# Altium footprint library trafo.PCBLIB: 80 footprints (part 2 of 5)
Each footprint in its own frame and in the unit in brackets; x right, y up, seen from the top. Pads: shape width x height; smd on the part's side, far side on the other; paste and mask are expansions set on the pad; w line width, h text height; cw(c..) or ccw(c..) is an arc to the next point about the centre after c.
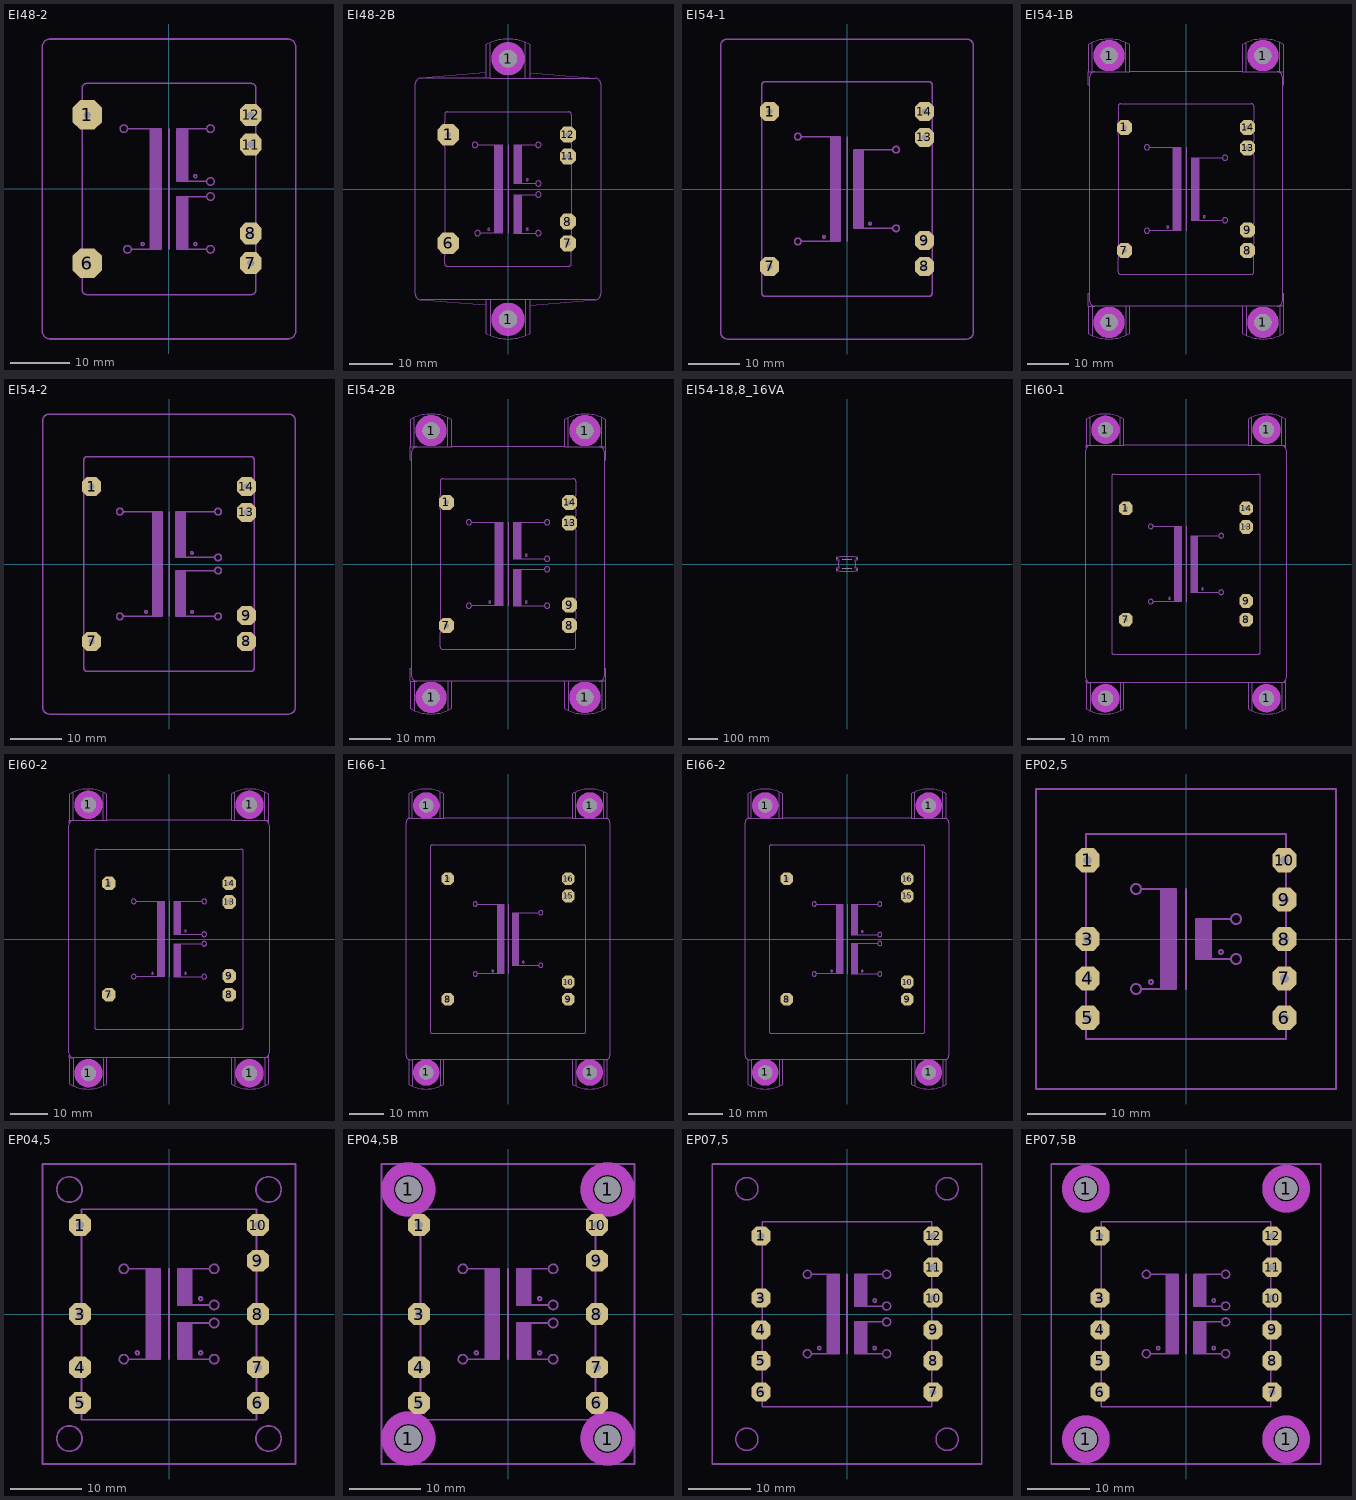
[diagram p1: the footprints below, top view; thin cyan lines are the x and y axes]

## EI48-2 [mil]
pads (6):
  oct 193.65x193.65 hole 47: 1(-542,492) 6(-542,-492)
  oct 145.24x145.24 hole 47: 7(542,-492) 8(542,-295) 11(542,295) 12(542,492)
Mechanical 2:
  circle w10: c-175,-365 r10
  circle w10: c-300,400 r25
  circle w10: c-275,-400 r25
  circle w10: c175,85 r10
  circle w10: c275,50 r25
  circle w10: c275,400 r25
  circle w10: c275,-50 r25
  circle w10: c275,-400 r25
  circle w10: c175,-365 r10
  rectangle: -125,-400 -50,400
  rectangle: 50,-400 125,-50
  rectangle: 50,50 125,400
  lines w10: -575,-605 -575,-675 ccw(c-550,-675) -550,-700 550,-700 ccw(c550,-675) 575,-675 575,-570 ; -575,-380 -575,380 ; -575,605 -575,675 cw(c-550,675) -550,700 550,700 cw(c550,675) 575,675 575,570 ; -275,400 -125,400 ; -250,-400 -125,-400 ; 0,-400 0,400 ; 250,-400 125,-400 ; 250,-50 125,-50 ; 250,50 125,50 ; 250,400 125,400 ; 575,-415 575,-370 ; 575,-220 575,220 ; 575,370 575,415 ; 840,945 ccw(c790,945) 790,995 -790,995 ccw(c-790,945) -840,945 -840,-945 ccw(c-790,-945) -790,-995 790,-995 ccw(c790,-945) 840,-945 840,955 ; -125,-400 -125,400 ; -125,-400 -50,-400 -50,400 -125,400 ; 125,-400 50,-400 50,-50 125,-50 ; 125,-400 125,-50 ; 125,50 50,50 50,400 125,400 ; 125,50 125,400
Mechanical 18:
  lines w10: -575,-605 -575,-380 ; -575,380 -575,605 ; 575,-570 575,-415 ; 575,-370 575,-220 ; 575,220 575,370 ; 575,415 575,570

## EI48-2B [mil]
pads (8):
  oct 193.65x193.65 hole 47: 1(-542,492) 6(-542,-492)
  round 162 hole 162: 1(0,-1181) 1(0,1181)
  oct 145.24x145.24 hole 47: 7(542,-492) 8(542,-295) 11(542,295) 12(542,492)
Mechanical 2:
  circle w10: c-175,-365 r10
  circle w10: c-300,400 r25
  circle w10: c-275,-400 r25
  circle w10: c175,85 r10
  circle w10: c275,50 r25
  circle w10: c275,400 r25
  circle w10: c275,-50 r25
  circle w10: c275,-400 r25
  circle w10: c175,-365 r10
  rectangle: -125,-400 -50,400
  rectangle: 50,-400 125,-50
  rectangle: 50,50 125,400
  lines w10: -575,-605 -575,-675 ccw(c-550,-675) -550,-700 550,-700 ccw(c550,-675) 575,-675 575,-570 ; -575,-380 -575,380 ; -575,605 -575,675 cw(c-550,675) -550,700 550,700 cw(c550,675) 575,675 575,570 ; -275,400 -125,400 ; -250,-400 -125,-400 ; -160,-1325 -160,-1005 ; -160,1325 -160,1005 ; 0,-400 0,400 ; 155,-1325 155,-1005 ; 155,1325 155,1005 ; 250,-400 125,-400 ; 250,-50 125,-50 ; 250,50 125,50 ; 250,400 125,400 ; 575,-415 575,-370 ; 575,-220 575,220 ; 575,370 575,415 ; 795,-1005 200,-1055 ; -790,-1005 cw(c-790,-955) -840,-955 -840,955 cw(c-790,955) -790,1005 ; -790,-1005 -200,-1005 ; -790,-1005 -200,-1050 ; -790,1005 -200,1005 ; -790,1005 -200,1055 ; -200,-1050 -200,-1005 ; -200,-1050 -200,-1306 ccw(c0,-960) 200,-1306 200,-1055 ; -200,-1005 -160,-1005 ; -200,1005 -160,1005 ; -200,1005 -200,1055 ; -200,1055 -200,1306 cw(c0,960) 200,1306 200,1055 ; -160,-1005 155,-1005 ; -160,1005 155,1005 ; -125,-400 -125,400 ; -125,-400 -50,-400 -50,400 -125,400 ; 125,-400 50,-400 50,-50 125,-50 ; 125,-400 125,-50 ; 125,50 50,50 50,400 125,400 ; 125,50 125,400 ; 155,-1005 200,-1005 ; 155,1005 200,1005 ; 200,-1055 200,-1005 ; 200,-1005 790,-1005 ccw(c790,-955) 840,-955 840,955 ccw(c790,955) 790,1005 ; 200,1005 200,1055 ; 200,1005 790,1005 ; 200,1055 790,1005
Mechanical 11 keep-out:
  circle w70: c0,-1181 r115
  circle w70: c0,1181 r115
Mechanical 12:
  circle w70: c0,-1181 r115
  circle w70: c0,1181 r115
Mechanical 18:
  lines w10: -575,-605 -575,-380 ; -575,380 -575,605 ; 575,-570 575,-415 ; 575,-370 575,-220 ; 575,220 575,370 ; 575,415 575,570

## EI54-1 [mil]
pads (6):
  oct 145.24x145.24 hole 47: 1(-591,591) 7(-591,-591) 8(591,-591) 9(591,-394) 13(591,394) 14(591,591)
Mechanical 2:
  circle w10: c-175,-365 r10
  circle w10: c175,-265 r10
  circle w10: c-375,400 r25
  circle w10: c-375,-400 r25
  circle w10: c375,-300 r25
  circle w10: c375,300 r25
  rectangle: -125,-400 -50,400
  rectangle: 50,-300 125,300
  lines w10: -650,-660 -650,-795 ccw(c-625,-795) -625,-820 625,-820 ccw(c625,-795) 650,-795 650,-660 ; -650,-525 -650,525 ; -650,655 -650,795 cw(c-625,795) -625,820 625,820 cw(c625,795) 650,795 650,660 ; -350,-400 -125,-400 ; -350,400 -125,400 ; 0,-400 0,400 ; 350,-300 125,-300 ; 350,300 125,300 ; 650,-525 650,-460 ; 650,-330 650,330 ; 650,465 650,525 ; -125,-400 -125,400 ; -125,-400 -50,-400 -50,400 -125,400 ; 125,-300 50,-300 50,300 125,300 ; 125,-300 125,300 ; -965,-1095 ccw(c-915,-1095) -915,-1145 915,-1145 ccw(c915,-1095) 965,-1095 965,1095 ccw(c915,1095) 915,1145 -915,1145 ccw(c-915,1095) -965,1095 -965,-1095
Mechanical 18:
  lines w10: -650,-660 -650,-525 ; -650,525 -650,655 ; 650,-660 650,-525 ; 650,-465 650,-330 ; 650,330 650,465 ; 650,525 650,660

## EI54-1B [mil]
pads (10):
  round 162 hole 162: 1(-738,-1280) 1(-738,1280) 1(738,-1280) 1(738,1280)
  oct 145.24x145.24 hole 47: 1(-591,591) 7(-591,-591) 8(591,-591) 9(591,-394) 13(591,394) 14(591,591)
Mechanical 2:
  circle w10: c-175,-365 r10
  circle w10: c175,-265 r10
  circle w10: c-375,400 r25
  circle w10: c-375,-400 r25
  circle w10: c375,-300 r25
  circle w10: c375,300 r25
  rectangle: -125,-400 -50,400
  rectangle: 50,-300 125,300
  lines w10: -900,-1405 -900,-1125 ; -900,-1120 -900,-1125 ; -900,1120 -900,1125 ; -900,1405 -900,1125 ; -875,-1125 cw(c-875,-1075) -925,-1075 -925,-1000 ; -875,1125 ccw(c-875,1075) -925,1075 -925,1000 ; -650,-660 -650,-795 ccw(c-625,-795) -625,-820 625,-820 ccw(c625,-795) 650,-795 650,-660 ; -650,-525 -650,525 ; -650,655 -650,795 cw(c-625,795) -625,820 625,820 cw(c625,795) 650,795 650,660 ; -580,-1405 -580,-1125 ; -580,1405 -580,1125 ; -350,-400 -125,-400 ; -350,400 -125,400 ; 0,-400 0,400 ; 350,-300 125,-300 ; 350,300 125,300 ; 580,-1405 580,-1125 ; 580,1405 580,1125 ; 650,-525 650,-460 ; 650,-330 650,330 ; 650,465 650,525 ; 875,-1125 ccw(c875,-1075) 925,-1075 925,-1000 ; 875,1125 cw(c875,1075) 925,1075 925,1000 ; 900,-1405 900,-1125 ; 900,-1120 900,-1125 ; 900,1120 900,1125 ; 900,1405 900,1125 ; -940,-1125 -940,-1386 ccw(c-740,-1040) -540,-1386 -540,-1125 ; -940,-1125 -900,-1125 ; -940,-1125 -940,-1000 -925,-1000 ; -940,1125 -900,1125 ; -940,1125 -940,1000 -925,1000 ; -940,1125 -940,1386 cw(c-740,1040) -540,1386 -540,1125 ; -925,-1000 -925,1000 ; -900,-1125 -580,-1125 ; -900,1125 -580,1125 ; -580,-1125 -540,-1125 ; -580,1125 -540,1125 ; -540,-1125 540,-1125 ; -540,1125 540,1125 ; -125,-400 -125,400 ; -125,-400 -50,-400 -50,400 -125,400 ; 125,-300 50,-300 50,300 125,300 ; 125,-300 125,300 ; 540,-1125 540,-1386 ccw(c740,-1040) 940,-1386 940,-1125 ; 540,-1125 580,-1125 ; 540,1125 580,1125 ; 540,1125 540,1386 cw(c740,1040) 940,1386 940,1125 ; 580,-1125 900,-1125 ; 580,1125 900,1125 ; 900,-1125 940,-1125 ; 900,1125 940,1125 ; 925,-1000 940,-1000 940,-1125 ; 925,-1000 925,1000 ; 925,1000 940,1000 940,1125
Mechanical 11 keep-out:
  circle w70: c-738,-1280 r115
  circle w70: c-738,1280 r115
  circle w70: c738,-1280 r115
  circle w70: c738,1280 r115
Mechanical 12:
  circle w70: c-738,-1280 r115
  circle w70: c-738,1280 r115
  circle w70: c738,-1280 r115
  circle w70: c738,1280 r115
Mechanical 18:
  lines w10: -650,-660 -650,-525 ; -650,525 -650,655 ; 650,-660 650,-525 ; 650,-465 650,-330 ; 650,330 650,465 ; 650,525 650,660

## EI54-2 [mil]
pads (6):
  oct 145.24x145.24 hole 47: 1(-591,591) 7(-591,-591) 8(591,-591) 9(591,-394) 13(591,394) 14(591,591)
Mechanical 2:
  circle w10: c-175,-365 r10
  circle w10: c-375,400 r25
  circle w10: c-375,-400 r25
  circle w10: c175,85 r10
  circle w10: c375,50 r25
  circle w10: c375,400 r25
  circle w10: c375,-50 r25
  circle w10: c375,-400 r25
  circle w10: c175,-365 r10
  rectangle: -125,-400 -50,400
  rectangle: 50,-400 125,-50
  rectangle: 50,50 125,400
  lines w10: -650,-660 -650,-795 ccw(c-625,-795) -625,-820 625,-820 ccw(c625,-795) 650,-795 650,-660 ; -650,-525 -650,525 ; -650,655 -650,795 cw(c-625,795) -625,820 625,820 cw(c625,795) 650,795 650,660 ; -350,-400 -125,-400 ; -350,400 -125,400 ; 0,-400 0,400 ; 350,-400 125,-400 ; 350,-50 125,-50 ; 350,50 125,50 ; 350,400 125,400 ; 650,-525 650,-460 ; 650,-330 650,330 ; 650,465 650,525 ; -125,-400 -125,400 ; -125,-400 -50,-400 -50,400 -125,400 ; 125,-400 50,-400 50,-50 125,-50 ; 125,-400 125,-50 ; 125,50 50,50 50,400 125,400 ; 125,50 125,400 ; -965,-1095 ccw(c-915,-1095) -915,-1145 915,-1145 ccw(c915,-1095) 965,-1095 965,1095 ccw(c915,1095) 915,1145 -915,1145 ccw(c-915,1095) -965,1095 -965,-1095
Mechanical 18:
  lines w10: -650,-660 -650,-525 ; -650,525 -650,655 ; 650,-660 650,-525 ; 650,-465 650,-330 ; 650,330 650,465 ; 650,525 650,660

## EI54-2B [mil]
pads (10):
  round 162 hole 162: 1(-738,-1280) 1(-738,1280) 1(738,-1280) 1(738,1280)
  oct 145.24x145.24 hole 47: 1(-591,591) 7(-591,-591) 8(591,-591) 9(591,-394) 13(591,394) 14(591,591)
Mechanical 2:
  circle w10: c-175,-365 r10
  circle w10: c-375,400 r25
  circle w10: c-375,-400 r25
  circle w10: c175,85 r10
  circle w10: c375,50 r25
  circle w10: c375,400 r25
  circle w10: c375,-50 r25
  circle w10: c375,-400 r25
  circle w10: c175,-365 r10
  rectangle: -125,-400 -50,400
  rectangle: 50,-400 125,-50
  rectangle: 50,50 125,400
  lines w10: -900,-1405 -900,-1125 ; -900,-1120 -900,-1125 ; -900,1120 -900,1125 ; -900,1405 -900,1125 ; -875,-1125 cw(c-875,-1075) -925,-1075 -925,-1000 ; -875,1125 ccw(c-875,1075) -925,1075 -925,1000 ; -650,-660 -650,-795 ccw(c-625,-795) -625,-820 625,-820 ccw(c625,-795) 650,-795 650,-660 ; -650,-525 -650,525 ; -650,655 -650,795 cw(c-625,795) -625,820 625,820 cw(c625,795) 650,795 650,660 ; -580,-1405 -580,-1125 ; -580,1405 -580,1125 ; -350,-400 -125,-400 ; -350,400 -125,400 ; 0,-400 0,400 ; 350,-400 125,-400 ; 350,-50 125,-50 ; 350,50 125,50 ; 350,400 125,400 ; 580,-1405 580,-1125 ; 580,1405 580,1125 ; 650,-525 650,-460 ; 650,-330 650,330 ; 650,465 650,525 ; 875,-1125 ccw(c875,-1075) 925,-1075 925,-1000 ; 875,1125 cw(c875,1075) 925,1075 925,1000 ; 900,-1405 900,-1125 ; 900,-1120 900,-1125 ; 900,1120 900,1125 ; 900,1405 900,1125 ; -940,-1125 -940,-1386 ccw(c-740,-1040) -540,-1386 -540,-1125 ; -940,-1125 -900,-1125 ; -940,-1125 -940,-1000 -925,-1000 ; -940,1125 -900,1125 ; -940,1125 -940,1000 -925,1000 ; -940,1125 -940,1386 cw(c-740,1040) -540,1386 -540,1125 ; -925,-1000 -925,1000 ; -900,-1125 -580,-1125 ; -900,1125 -580,1125 ; -580,-1125 -540,-1125 ; -580,1125 -540,1125 ; -540,-1125 540,-1125 ; -540,1125 540,1125 ; -125,-400 -125,400 ; -125,-400 -50,-400 -50,400 -125,400 ; 125,-400 50,-400 50,-50 125,-50 ; 125,-400 125,-50 ; 125,50 50,50 50,400 125,400 ; 125,50 125,400 ; 540,-1125 540,-1386 ccw(c740,-1040) 940,-1386 940,-1125 ; 540,-1125 580,-1125 ; 540,1125 580,1125 ; 540,1125 540,1386 cw(c740,1040) 940,1386 940,1125 ; 580,-1125 900,-1125 ; 580,1125 900,1125 ; 900,-1125 940,-1125 ; 900,1125 940,1125 ; 925,-1000 940,-1000 940,-1125 ; 925,-1000 925,1000 ; 925,1000 940,1000 940,1125
Mechanical 11 keep-out:
  circle w70: c-738,-1280 r115
  circle w70: c-738,1280 r115
  circle w70: c738,-1280 r115
  circle w70: c738,1280 r115
Mechanical 12:
  circle w70: c-738,-1280 r115
  circle w70: c-738,1280 r115
  circle w70: c738,-1280 r115
  circle w70: c738,1280 r115
Mechanical 18:
  lines w10: -650,-660 -650,-525 ; -650,525 -650,655 ; 650,-660 650,-525 ; 650,-465 650,-330 ; 650,330 650,465 ; 650,525 650,660

## EI54-18,8_16VA [mil]
pads (18):
  round 165 hole 165: 1(-1280,-740) 1(-1280,740) 1(1280,-740) 1(1280,740)
  round 100 hole 43.31: 1(-600,-590) 2(-400,-590) 3(-200,-590) 4(0,-590) 5(200,-590) 6(400,-590) 7(600,-590) 8(600,590) 9(400,590) 10(200,590) 11(0,590) 12(-200,590) 13(-400,590) 14(-600,590)
Mechanical 2:
  lines w8: -1464,-932 cw(c-455.25,-740) -1464,-548 -1126,-548 cw(c3863.8,0) -1126,548 -1464,548 cw(c-455.25,740) -1464,932 -1164,932 cw(c0,-9615) 1164,932 1464,932 cw(c455.25,740) 1464,548 1126,548 cw(c-3863.8,0) 1126,-548 1464,-548 cw(c455.25,-740) 1464,-932 1164,-932 cw(c0,9615) -1164,-932 -1464,-932

## EI60-1 [mil]
pads (10):
  round 162 hole 162: 1(-856,-1427) 1(-856,1427) 1(856,-1427) 1(856,1427)
  oct 145.24x145.24 hole 47: 1(-640,591) 7(-640,-591) 8(640,-591) 9(640,-394) 13(640,394) 14(640,591)
Mechanical 2:
  circle w10: c-175,-365 r10
  circle w10: c175,-265 r10
  circle w10: c-375,400 r25
  circle w10: c-375,-400 r25
  circle w10: c375,-300 r25
  circle w10: c375,300 r25
  rectangle: -125,-400 -50,400
  rectangle: 50,-300 125,300
  lines w10: -1060,-1235 -1060,-1260 ; -1060,1230 -1060,1260 ; -1020,-1560 -1020,-1260 ; -1020,1560 -1020,1260 ; -1015,-1260 cw(c-1015,-1210) -1065,-1210 -1065,1210 cw(c-1015,1210) -1015,1260 ; -700,-1560 -700,-1260 ; -700,1560 -700,1260 ; -350,-400 -125,-400 ; -350,400 -125,400 ; 0,-400 0,400 ; 350,-300 125,-300 ; 350,300 125,300 ; 700,-1560 700,-1260 ; 700,1560 700,1260 ; 1015,-1260 ccw(c1015,-1210) 1065,-1210 1065,1210 ccw(c1015,1210) 1015,1260 ; 1020,-1560 1020,-1260 ; 1020,1560 1020,1260 ; 1060,-1230 1060,-1260 ; 1060,1230 1060,1260 ; -1060,-1260 -1060,-1541 ccw(c-860,-1195) -660,-1541 -660,-1260 ; -1060,-1260 -1020,-1260 ; -1060,1260 -1020,1260 ; -1060,1260 -1060,1541 cw(c-860,1195) -660,1541 -660,1260 ; -1020,-1260 -700,-1260 ; -1020,1260 -700,1260 ; -700,-1260 -660,-1260 ; -700,1260 -660,1260 ; -660,-1260 660,-1260 ; -660,1260 660,1260 ; -125,-400 -125,400 ; -125,-400 -50,-400 -50,400 -125,400 ; 125,-300 50,-300 50,300 125,300 ; 125,-300 125,300 ; 660,-1260 660,-1541 ccw(c860,-1195) 1060,-1541 1060,-1260 ; 660,-1260 700,-1260 ; 660,1260 700,1260 ; 660,1260 660,1541 cw(c860,1195) 1060,1541 1060,1260 ; 700,-1260 1020,-1260 ; 700,1260 1020,1260 ; 1020,-1260 1060,-1260 ; 1020,1260 1060,1260 ; -790,-935 ccw(c-765,-935) -765,-960 765,-960 ccw(c765,-935) 790,-935 790,930 ccw(c765,930) 765,955 -765,955 ccw(c-765,930) -790,930 -790,-935
Mechanical 11 keep-out:
  circle w70: c-856,-1427 r115
  circle w70: c-856,1427 r115
  circle w70: c856,-1427 r115
  circle w70: c856,1427 r115
Mechanical 12:
  circle w70: c-856,-1427 r115
  circle w70: c-856,1427 r115
  circle w70: c856,-1427 r115
  circle w70: c856,1427 r115

## EI60-2 [mil]
pads (10):
  round 162 hole 162: 1(-856,-1427) 1(-856,1427) 1(856,-1427) 1(856,1427)
  oct 145.24x145.24 hole 47: 1(-640,591) 7(-640,-591) 8(640,-591) 9(640,-394) 13(640,394) 14(640,591)
Mechanical 2:
  circle w10: c-175,-365 r10
  circle w10: c-375,400 r25
  circle w10: c-375,-400 r25
  circle w10: c175,85 r10
  circle w10: c375,50 r25
  circle w10: c375,400 r25
  circle w10: c375,-50 r25
  circle w10: c375,-400 r25
  circle w10: c175,-365 r10
  rectangle: -125,-400 -50,400
  rectangle: 50,-400 125,-50
  rectangle: 50,50 125,400
  lines w10: -1060,-1235 -1060,-1260 ; -1060,1230 -1060,1260 ; -1020,-1560 -1020,-1260 ; -1020,1560 -1020,1260 ; -1015,-1260 cw(c-1015,-1210) -1065,-1210 -1065,1210 cw(c-1015,1210) -1015,1260 ; -700,-1560 -700,-1260 ; -700,1560 -700,1260 ; -350,-400 -125,-400 ; -350,400 -125,400 ; 0,-400 0,400 ; 350,-400 125,-400 ; 350,-50 125,-50 ; 350,50 125,50 ; 350,400 125,400 ; 700,-1560 700,-1260 ; 700,1560 700,1260 ; 1015,-1260 ccw(c1015,-1210) 1065,-1210 1065,1210 ccw(c1015,1210) 1015,1260 ; 1020,-1560 1020,-1260 ; 1020,1560 1020,1260 ; 1060,-1230 1060,-1260 ; 1060,1230 1060,1260 ; -1060,-1260 -1060,-1541 ccw(c-860,-1195) -660,-1541 -660,-1260 ; -1060,-1260 -1020,-1260 ; -1060,1260 -1020,1260 ; -1060,1260 -1060,1541 cw(c-860,1195) -660,1541 -660,1260 ; -1020,-1260 -700,-1260 ; -1020,1260 -700,1260 ; -700,-1260 -660,-1260 ; -700,1260 -660,1260 ; -660,-1260 660,-1260 ; -660,1260 660,1260 ; -125,-400 -125,400 ; -125,-400 -50,-400 -50,400 -125,400 ; 125,-400 50,-400 50,-50 125,-50 ; 125,-400 125,-50 ; 125,50 50,50 50,400 125,400 ; 125,50 125,400 ; 660,-1260 660,-1541 ccw(c860,-1195) 1060,-1541 1060,-1260 ; 660,-1260 700,-1260 ; 660,1260 700,1260 ; 660,1260 660,1541 cw(c860,1195) 1060,1541 1060,1260 ; 700,-1260 1020,-1260 ; 700,1260 1020,1260 ; 1020,-1260 1060,-1260 ; 1020,1260 1060,1260 ; -790,-935 ccw(c-765,-935) -765,-960 765,-960 ccw(c765,-935) 790,-935 790,930 ccw(c765,930) 765,955 -765,955 ccw(c-765,930) -790,930 -790,-935
Mechanical 11 keep-out:
  circle w70: c-856,-1427 r115
  circle w70: c-856,1427 r115
  circle w70: c856,-1427 r115
  circle w70: c856,1427 r115
Mechanical 12:
  circle w70: c-856,-1427 r115
  circle w70: c-856,1427 r115
  circle w70: c856,-1427 r115
  circle w70: c856,1427 r115

## EI66-1 [mil]
pads (10):
  round 162 hole 162: 1(-935,-1526) 1(-935,1526) 1(935,-1526) 1(935,1526)
  oct 145.24x145.24 hole 47: 1(-689,689) 8(-689,-689) 9(689,-689) 10(689,-492) 15(689,492) 16(689,689)
Mechanical 2:
  circle w10: c-175,-365 r10
  circle w10: c175,-265 r10
  circle w10: c-375,400 r25
  circle w10: c-375,-400 r25
  circle w10: c375,-300 r25
  circle w10: c375,300 r25
  rectangle: -125,-400 -50,400
  rectangle: 50,-300 125,300
  lines w10: -1135,-1375 -1135,-1380 ; -1135,1375 -1135,1380 ; -1115,-1380 cw(c-1115,-1330) -1165,-1330 -1165,1330 cw(c-1115,1330) -1115,1380 ; -1095,-1680 -1095,-1380 ; -1095,1680 -1095,1380 ; -775,-1680 -775,-1380 ; -775,1680 -775,1380 ; -350,-400 -125,-400 ; -350,400 -125,400 ; 0,-400 0,400 ; 350,-300 125,-300 ; 350,300 125,300 ; 775,-1680 775,-1380 ; 775,1680 775,1380 ; 1095,-1680 1095,-1380 ; 1095,1680 1095,1380 ; 1115,-1380 ccw(c1115,-1330) 1165,-1330 1165,1330 ccw(c1115,1330) 1115,1380 ; 1135,-1375 1135,-1380 ; 1135,1375 1135,1380 ; -1135,-1380 -1135,-1661 ccw(c-935,-1315) -735,-1661 -735,-1380 ; -1135,-1380 -1095,-1380 ; -1135,1380 -1095,1380 ; -1135,1380 -1135,1661 cw(c-935,1315) -735,1661 -735,1380 ; -1095,-1380 -775,-1380 ; -1095,1380 -775,1380 ; -775,-1380 -735,-1380 ; -775,1380 -735,1380 ; -735,-1380 735,-1380 ; -735,1380 735,1380 ; -125,-400 -125,400 ; -125,-400 -50,-400 -50,400 -125,400 ; 125,-300 50,-300 50,300 125,300 ; 125,-300 125,300 ; 735,-1380 735,-1661 ccw(c935,-1315) 1135,-1661 1135,-1380 ; 735,-1380 775,-1380 ; 735,1380 775,1380 ; 735,1380 735,1661 cw(c935,1315) 1135,1661 1135,1380 ; 775,-1380 1095,-1380 ; 775,1380 1095,1380 ; 1095,-1380 1135,-1380 ; 1095,1380 1135,1380 ; -890,-1055 ccw(c-865,-1055) -865,-1080 865,-1080 ccw(c865,-1055) 890,-1055 890,1050 ccw(c865,1050) 865,1075 -865,1075 ccw(c-865,1050) -890,1050 -890,-1055
Mechanical 11 keep-out:
  circle w70: c-935,-1526 r115
  circle w70: c-935,1526 r115
  circle w70: c935,-1526 r115
  circle w70: c935,1526 r115
Mechanical 12:
  circle w70: c-935,-1526 r115
  circle w70: c-935,1526 r115
  circle w70: c935,-1526 r115
  circle w70: c935,1526 r115

## EI66-2 [mil]
pads (10):
  round 162 hole 162: 1(-935,-1526) 1(-935,1526) 1(935,-1526) 1(935,1526)
  oct 145.24x145.24 hole 47: 1(-689,689) 8(-689,-689) 9(689,-689) 10(689,-492) 15(689,492) 16(689,689)
Mechanical 2:
  circle w10: c-175,-365 r10
  circle w10: c-375,400 r25
  circle w10: c-375,-400 r25
  circle w10: c175,85 r10
  circle w10: c375,50 r25
  circle w10: c375,400 r25
  circle w10: c375,-50 r25
  circle w10: c375,-400 r25
  circle w10: c175,-365 r10
  rectangle: -125,-400 -50,400
  rectangle: 50,-400 125,-50
  rectangle: 50,50 125,400
  lines w10: -1135,-1375 -1135,-1380 ; -1135,1375 -1135,1380 ; -1115,-1380 cw(c-1115,-1330) -1165,-1330 -1165,1330 cw(c-1115,1330) -1115,1380 ; -1095,-1680 -1095,-1380 ; -1095,1680 -1095,1380 ; -775,-1680 -775,-1380 ; -775,1680 -775,1380 ; -350,-400 -125,-400 ; -350,400 -125,400 ; 0,-400 0,400 ; 350,-400 125,-400 ; 350,-50 125,-50 ; 350,50 125,50 ; 350,400 125,400 ; 775,-1680 775,-1380 ; 775,1680 775,1380 ; 1095,-1680 1095,-1380 ; 1095,1680 1095,1380 ; 1115,-1380 ccw(c1115,-1330) 1165,-1330 1165,1330 ccw(c1115,1330) 1115,1380 ; 1135,-1375 1135,-1380 ; 1135,1375 1135,1380 ; -1135,-1380 -1135,-1661 ccw(c-935,-1315) -735,-1661 -735,-1380 ; -1135,-1380 -1095,-1380 ; -1135,1380 -1095,1380 ; -1135,1380 -1135,1661 cw(c-935,1315) -735,1661 -735,1380 ; -1095,-1380 -775,-1380 ; -1095,1380 -775,1380 ; -775,-1380 -735,-1380 ; -775,1380 -735,1380 ; -735,-1380 735,-1380 ; -735,1380 735,1380 ; -125,-400 -125,400 ; -125,-400 -50,-400 -50,400 -125,400 ; 125,-400 50,-400 50,-50 125,-50 ; 125,-400 125,-50 ; 125,50 50,50 50,400 125,400 ; 125,50 125,400 ; 735,-1380 735,-1661 ccw(c935,-1315) 1135,-1661 1135,-1380 ; 735,-1380 775,-1380 ; 735,1380 775,1380 ; 735,1380 735,1661 cw(c935,1315) 1135,1661 1135,1380 ; 775,-1380 1095,-1380 ; 775,1380 1095,1380 ; 1095,-1380 1135,-1380 ; 1095,1380 1135,1380 ; -890,-1055 ccw(c-865,-1055) -865,-1080 865,-1080 ccw(c865,-1055) 890,-1055 890,1050 ccw(c865,1050) 865,1075 -865,1075 ccw(c-865,1050) -890,1050 -890,-1055
Mechanical 11 keep-out:
  circle w70: c-935,-1526 r115
  circle w70: c-935,1526 r115
  circle w70: c935,-1526 r115
  circle w70: c935,1526 r115
Mechanical 12:
  circle w70: c-935,-1526 r115
  circle w70: c-935,1526 r115
  circle w70: c935,-1526 r115
  circle w70: c935,1526 r115

## EP02,5 [mil]
pads (9):
  oct 121.03x121.03 hole 44: 1(-492,394) 3(-492,0) 4(-492,-197) 5(-492,-394) 6(492,-394) 7(492,-197) 8(492,0) 9(492,197) 10(492,394)
Mechanical 2:
  circle w10: c-175,-215 r10
  circle w10: c175,-65 r10
  circle w10: c-250,-250 r25
  circle w10: c-250,250 r25
  circle w10: c250,100 r25
  circle w10: c250,-100 r25
  rectangle: -125,-250 -50,250
  rectangle: 50,-100 125,100
  lines w10: -500,-465 -500,-500 500,-500 500,-465 ; -500,-325 -500,-265 ; -500,-130 -500,-70 ; -500,70 -500,325 ; -500,465 -500,525 500,525 500,465 ; -225,-250 -125,-250 ; -225,250 -125,250 ; 0,-250 0,250 ; 225,-100 125,-100 ; 225,100 125,100 ; 500,-325 500,-270 ; 500,-125 500,-70 ; 500,70 500,125 ; 500,270 500,325 ; -125,-250 -125,250 ; -125,-250 -50,-250 -50,250 -125,250 ; 125,-100 50,-100 50,100 125,100 ; 125,-100 125,100 ; -750,-750 750,-750 750,750 -750,750 -750,-750
Mechanical 18:
  lines w10: -500,-465 -500,-325 ; -500,-265 -500,-130 ; -500,-70 -500,70 ; -500,325 -500,465 ; 500,-465 500,-325 ; 500,-270 500,-125 ; 500,-70 500,70 ; 500,125 500,270 ; 500,325 500,465

## EP04,5 [mil]
pads (9):
  oct 121.03x121.03 hole 44: 1(-492,492) 3(-492,0) 4(-492,-295) 5(-492,-492) 6(492,-492) 7(492,-295) 8(492,0) 9(492,295) 10(492,492)
Mechanical 2:
  circle w10: c551,-689 r70
  circle w10: c-551,-689 r70
  circle w10: c-551,689 r70
  circle w10: c551,689 r70
  circle w10: c-175,-215 r10
  circle w10: c175,85 r10
  circle w10: c175,-215 r10
  circle w10: c-250,-250 r25
  circle w10: c-250,250 r25
  circle w10: c250,250 r25
  circle w10: c250,-250 r25
  circle w10: c250,-50 r25
  circle w10: c250,50 r25
  rectangle: -125,-250 -50,250
  rectangle: 50,50 125,250
  rectangle: 50,-250 125,-50
  lines w10: -485,-565 -485,-585 485,-585 485,-565 ; -485,-420 -485,-365 ; -485,-225 -485,-70 ; -485,70 -485,420 ; -485,565 -485,580 485,580 485,565 ; -225,-250 -125,-250 ; -225,250 -125,250 ; 0,-250 0,250 ; 225,-250 125,-250 ; 225,-50 125,-50 ; 225,50 125,50 ; 225,250 125,250 ; 485,-420 485,-370 ; 485,-220 485,-75 ; 485,75 485,220 ; 485,370 485,415 ; -125,-250 -125,250 ; -125,-250 -50,-250 -50,250 -125,250 ; 125,-250 50,-250 50,-50 125,-50 ; 125,-250 125,-50 ; 125,50 50,50 50,250 125,250 ; 125,50 125,250 ; -700,-830 700,-830 700,830 -700,830 -700,-830
Mechanical 18:
  lines w10: -485,-565 -485,-420 ; -485,-365 -485,-225 ; -485,-70 -485,70 ; -485,420 -485,565 ; 485,-565 485,-420 ; 485,-370 485,-220 ; 485,-75 485,75 ; 485,220 485,370 ; 485,415 485,565

## EP04,5B [mil]
pads (13):
  round 142 hole 142: 1(-551,-689) 1(-551,689) 1(551,-689) 1(551,689)
  oct 121.03x121.03 hole 44: 1(-492,492) 3(-492,0) 4(-492,-295) 5(-492,-492) 6(492,-492) 7(492,-295) 8(492,0) 9(492,295) 10(492,492)
Mechanical 2:
  circle w10: c-175,-215 r10
  circle w10: c175,85 r10
  circle w10: c175,-215 r10
  circle w10: c-250,-250 r25
  circle w10: c-250,250 r25
  circle w10: c250,250 r25
  circle w10: c250,-250 r25
  circle w10: c250,-50 r25
  circle w10: c250,50 r25
  rectangle: -125,-250 -50,250
  rectangle: 50,50 125,250
  rectangle: 50,-250 125,-50
  lines w10: -485,-565 -485,-585 485,-585 485,-565 ; -485,-420 -485,-365 ; -485,-225 -485,-70 ; -485,70 -485,420 ; -485,565 -485,580 485,580 485,565 ; -225,-250 -125,-250 ; -225,250 -125,250 ; 0,-250 0,250 ; 225,-250 125,-250 ; 225,-50 125,-50 ; 225,50 125,50 ; 225,250 125,250 ; 485,-420 485,-370 ; 485,-220 485,-75 ; 485,75 485,220 ; 485,370 485,415 ; -125,-250 -125,250 ; -125,-250 -50,-250 -50,250 -125,250 ; 125,-250 50,-250 50,-50 125,-50 ; 125,-250 125,-50 ; 125,50 50,50 50,250 125,250 ; 125,50 125,250 ; -700,-830 700,-830 700,830 -700,830 -700,-830
Mechanical 11 keep-out:
  circle w70: c-551,-689 r115
  circle w70: c-551,689 r115
  circle w70: c551,689 r115
  circle w70: c551,-689 r115
Mechanical 12:
  circle w70: c-551,-689 r115
  circle w70: c-551,689 r115
  circle w70: c551,689 r115
  circle w70: c551,-689 r115
Mechanical 18:
  lines w10: -485,-565 -485,-420 ; -485,-365 -485,-225 ; -485,-70 -485,70 ; -485,420 -485,565 ; 485,-565 485,-420 ; 485,-370 485,-220 ; 485,-75 485,75 ; 485,220 485,370 ; 485,415 485,565

## EP07,5 [mil]
pads (11):
  oct 121.03x121.03 hole 44: 1(-542,492) 3(-542,100) 4(-542,-100) 5(-542,-295) 6(-542,-492) 7(542,-492) 8(542,-295) 9(542,-100) 10(542,100) 11(542,295) 12(542,492)
Mechanical 2:
  circle w10: c631,-789 r70
  circle w10: c-631,-789 r70
  circle w10: c-631,789 r70
  circle w10: c631,789 r70
  circle w10: c-175,-215 r10
  circle w10: c175,85 r10
  circle w10: c175,-215 r10
  circle w10: c-250,-250 r25
  circle w10: c-250,250 r25
  circle w10: c250,250 r25
  circle w10: c250,-250 r25
  circle w10: c250,-50 r25
  circle w10: c250,50 r25
  rectangle: -125,-250 -50,250
  rectangle: 50,50 125,250
  rectangle: 50,-250 125,-50
  lines w10: -535,-565 -535,-585 535,-585 535,-565 ; -535,-420 -535,-365 ; -535,-225 -535,-170 ; -535,-30 -535,30 ; -535,170 -535,420 ; -535,565 -535,580 535,580 535,565 ; -225,-250 -125,-250 ; -225,250 -125,250 ; 0,-250 0,250 ; 225,-250 125,-250 ; 225,-50 125,-50 ; 225,50 125,50 ; 225,250 125,250 ; 535,-420 535,-370 ; 535,-220 535,-175 ; 535,-25 535,25 ; 535,175 535,220 ; 535,370 535,415 ; -125,-250 -125,250 ; -125,-250 -50,-250 -50,250 -125,250 ; 125,-250 50,-250 50,-50 125,-50 ; 125,-250 125,-50 ; 125,50 50,50 50,250 125,250 ; 125,50 125,250 ; -850,-945 850,-945 850,945 -850,945 -850,-945
Mechanical 18:
  lines w10: -535,-565 -535,-420 ; -535,-365 -535,-225 ; -535,-170 -535,-30 ; -535,30 -535,170 ; -535,420 -535,565 ; 535,-565 535,-420 ; 535,-370 535,-220 ; 535,-175 535,-25 ; 535,25 535,175 ; 535,220 535,370 ; 535,415 535,565

## EP07,5B [mil]
pads (15):
  round 142 hole 142: 1(-631,-789) 1(-631,789) 1(631,-789) 1(631,789)
  oct 121.03x121.03 hole 44: 1(-542,492) 3(-542,100) 4(-542,-100) 5(-542,-295) 6(-542,-492) 7(542,-492) 8(542,-295) 9(542,-100) 10(542,100) 11(542,295) 12(542,492)
Mechanical 2:
  circle w10: c-175,-215 r10
  circle w10: c175,85 r10
  circle w10: c175,-215 r10
  circle w10: c-250,-250 r25
  circle w10: c-250,250 r25
  circle w10: c250,250 r25
  circle w10: c250,-250 r25
  circle w10: c250,-50 r25
  circle w10: c250,50 r25
  rectangle: -125,-250 -50,250
  rectangle: 50,50 125,250
  rectangle: 50,-250 125,-50
  lines w10: -535,-565 -535,-585 535,-585 535,-565 ; -535,-420 -535,-365 ; -535,-225 -535,-170 ; -535,-30 -535,30 ; -535,170 -535,420 ; -535,565 -535,580 535,580 535,565 ; -225,-250 -125,-250 ; -225,250 -125,250 ; 0,-250 0,250 ; 225,-250 125,-250 ; 225,-50 125,-50 ; 225,50 125,50 ; 225,250 125,250 ; 535,-420 535,-370 ; 535,-220 535,-175 ; 535,-25 535,25 ; 535,175 535,220 ; 535,370 535,415 ; -125,-250 -125,250 ; -125,-250 -50,-250 -50,250 -125,250 ; 125,-250 50,-250 50,-50 125,-50 ; 125,-250 125,-50 ; 125,50 50,50 50,250 125,250 ; 125,50 125,250 ; -850,-945 850,-945 850,945 -850,945 -850,-945
Mechanical 11 keep-out:
  circle w70: c-631,-789 r115
  circle w70: c-631,789 r115
  circle w70: c631,789 r115
  circle w70: c631,-789 r115
Mechanical 12:
  circle w70: c-631,-789 r115
  circle w70: c-631,789 r115
  circle w70: c631,789 r115
  circle w70: c631,-789 r115
Mechanical 18:
  lines w10: -535,-565 -535,-420 ; -535,-365 -535,-225 ; -535,-170 -535,-30 ; -535,30 -535,170 ; -535,420 -535,565 ; 535,-565 535,-420 ; 535,-370 535,-220 ; 535,-175 535,-25 ; 535,25 535,175 ; 535,220 535,370 ; 535,415 535,565